# EAGLE library part 5202-12-N-02 (library con-ebyelectro)
Barrier Blocks Sreies 5202 Source: http://www.ebyelectro.com/PDF/5202-XX-N-02.pdf
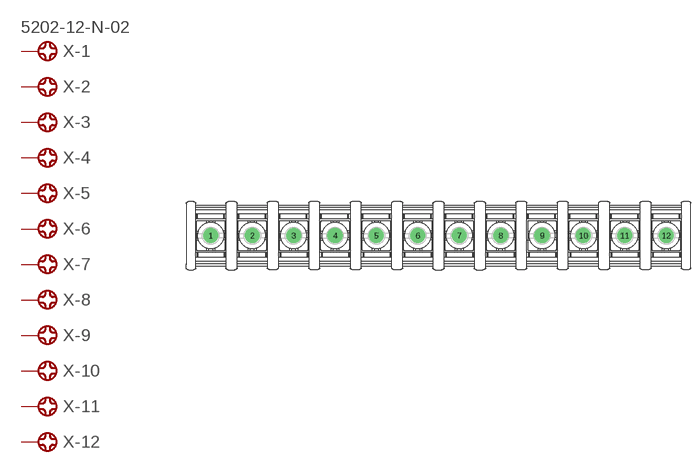
[diagram p1: symbol with the pads of 5202-12-N-02; footprint 5202-12-N-02]

Designator prefix X; gates -1=CONNECT-VALUE -2=CONNECT -3=CONNECT -4=CONNECT -5=CONNECT -6=CONNECT -7=CONNECT -8=CONNECT -9=CONNECT -10=CONNECT -11=CONNECT -12=CONNECT

## 5202-12-N-02 (OC_FARNELL: unknown; OC_NEWARK: unknown)  [5202-12-N-02]
1  -1:1  pas
2  -2:1  pas
3  -3:1  pas
4  -4:1  pas
5  -5:1  pas
6  -6:1  pas
7  -7:1  pas
8  -8:1  pas
9  -9:1  pas
10  -10:1  pas
11  -11:1  pas
12  -12:1  pas

## Footprint 5202-12-N-02 (pad centres in mm)
Barrier Blocks Sreies 5202 Source: http://www.ebyelectro.com/PDF/5202-XX-N-02.pdf
drill 1.5 pad 3: 1 -45.375,0; 2 -37.125,0; 3 -28.875,0; 4 -20.625,0; 5 -12.375,0; 6 -4.125,0; 7 4.125,0; 8 12.375,0; 9 20.625,0; 10 28.875,0; 11 37.125,0; 12 45.375,0